# EAGLE library part 5787526-1 (library 5787526-1)
Body Features: Primary Product Color Black | Configuration Features: Number of Positions 6 | Contact Features: Contact Base Material Phosphor Bronze | Contact Current Rating (Max) 4 AMP | PCB Contact Termination Area Plating Material Tin | Contact Mating Area Plating Material Gold | Contact Underplating Material Nickel | Housing Features: Centerline (Pitch) .08 INCH | Centerline (Pitch) 2 MM | Industry Standards: UL Flammability Rating UL 94V-0 | Mechanical Attachment: PCB Mount Retention Type Hold-Down Pos Source: Datasheet <https://www.te.com/commerce/DocumentDelivery/DDEController?Action=srchrtrv&DocNm=4-1773458-1_2_PIECE_POWER_CONNECTORS_QRG&DocType=Data Sheet&DocLang=English&PartCntxt=5787526-1&DocFormat=pdf>
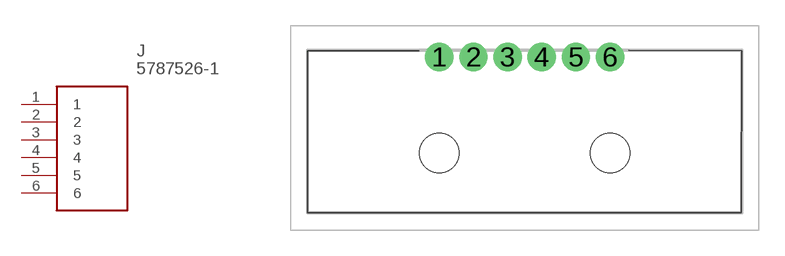
[diagram p0: symbol with the pads of 57875261; footprint 57875261]

Designator prefix J

## 5787526-1 (Description: Body Features: Primary Product Color Black | Configuration Features: Number of Positions 6 | Contact Features: Contact Base Material Phosphor Bronze | Contact Current Rating (Max) 4 AMP | PCB Contact Termination Area Plating Material Tin | Contact Mating Area Plating Material Gold | Contact Underplating Material Nickel | Housing Features: Centerline (Pitch) .08 INCH | Centerline (Pitch) 2 MM | Industry Standards: UL Flammability Rating UL 94V-0 | Mechanical Attachment: PCB Mount Retention Type Hold-Down Pos; Height: 8.76mm; Manufacturer_Name: TE Connectivity; Manufacturer_Part_Number: 5787526-1; Mouser_Part_Number: 571-5787526-1; Mouser_Price-Stock: https://www.mouser.co.uk/ProductDetail/TE-Connectivity/5787526-1?qs=Y377PMEofyCxYvQc9q%2F8iQ%3D%3D)  [57875261]
1  1
2  2
3  3
4  4
5  5
6  6

## Footprint 57875261 (pad centres in mm)
5787526-1-3
drill 1.11 pad 1.665: 1 0,0; 2 2,0; 3 4,0; 4 6,0; 5 8,0; 6 10,0
hole 2.32 at 0,-5.64
hole 2.32 at 10,-5.64